# Altium integrated library 4007.IntLib: 1 symbol
Pins are listed as number, name and electrical type; pins without a type are passive.

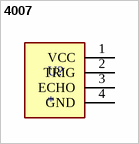
[diagram p0: symbol 4007]

## 4007
designator U?
Ultrasonic Distance Sensor - 3V or 5V - HC-SR04 compatible - RCWL-1601; MF: Adafruit Industries; MP: 4007; SnapEDA_Link: https://www.snapeda.com/parts/4007/Adafruit+Industries+LLC/view-part/?ref=snap; Package: None; Value: *; Check_prices: https://www.snapeda.com/parts/4007/Adafruit+Industries+LLC/view-part/?ref=eda
footprint MODULE_4007
pins: 1 VCC (power), 2 TRIG, 3 ECHO, 4 GND (power)